# Altium schematic symbol library RES,75k,0.1%,0.2W,0603.Schlib: 1 symbol
Pins are listed as number, name and electrical type; pins without a type are passive.

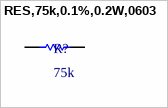
[diagram p0: symbol RES,75k,0.1%,0.2W,0603]

## RES,75k,0.1%,0.2W,0603
designator R?, comment 75k
75 kOhms ±0.1% 0.2W, 1/5W Chip Resistor 0603 (1608 Metric) Automotive AEC-Q200, Pulse Withstanding Thick Film
pins: 1, 2